# Altium footprint library Skumpad.PcbLib: 2 footprints
Each footprint in its own frame and in the unit in brackets; x right, y up, seen from the top. Pads: shape width x height; smd on the part's side, far side on the other; paste and mask are expansions set on the pad; w line width, h text height; cw(c..) or ccw(c..) is an arc to the next point about the centre after c.
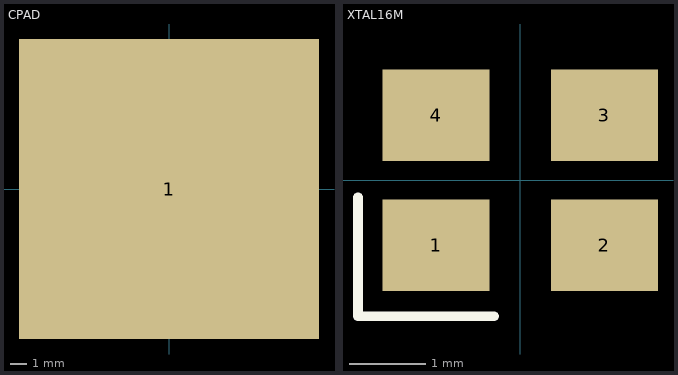
[diagram p0: the footprints below, top view; thin cyan lines are the x and y axes]

## CPAD [mm]
pads (1):
  rect 18x18 smd paste-9 mask+0.102: 1(0,0)

## XTAL16M [mm] "A 16Mhz crystal resonator footprint, JLCPCB #C13738"
height 0.7
pads (4):
  rect 1.4x1.2 smd: 1(-1.1,-0.85) 2(1.1,-0.85) 3(1.1,0.85) 4(-1.1,0.85)
Top Overlay:
  lines w0.127: -2.121,-0.223 -2.121,-1.778 -0.341,-1.778